# EAGLE library part 233-108/000-005 (library con-wago_233)
Stand: 01.01.2014. Die jeweils aktuellen Daten zu diesem Artikel finden Sie in unserem Produktkatalog, den Sie unter www.wago.com einsehen können. As of: 01/01/2014. Please find the newest data for this article in our product catalogue, which can be viewed under www.wago.com.
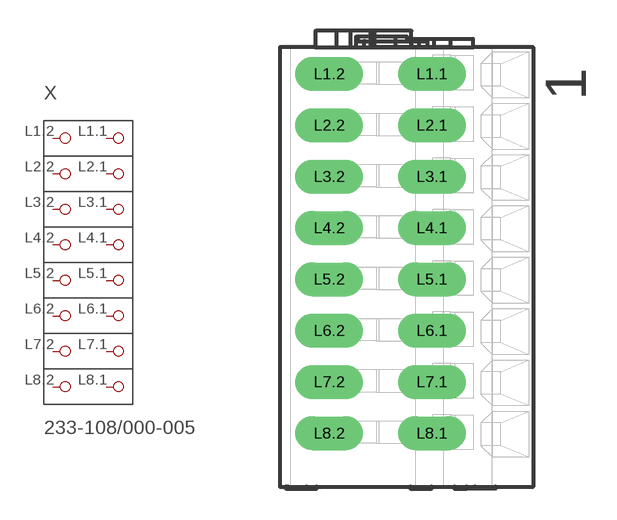
[diagram p60: symbol with the pads of P-233-108; footprint P-233-108]

Designator prefix X

## 233-108/000-005  [P-233-108]
L1.1  P1.1
L1.2  P1.2
L2.1  P2.1
L2.2  P2.2
L3.1  P3.1
L3.2  P3.2
L4.1  P4.1
L4.2  P4.2
L5.1  P5.1
L5.2  P5.2
L6.1  P6.1
L6.2  P6.2
L7.1  P7.1
L7.2  P7.2
L8.1  P8.1
L8.2  P8.2

## Footprint P-233-108 (pad centres in mm)
drill 1.1 long: L1.1 1.238,9.05; L1.2 -3.762,9.05; L2.1 1.238,6.55; L2.2 -3.762,6.55; L3.1 1.238,4.05; L3.2 -3.762,4.05; L4.1 1.238,1.55; L4.2 -3.762,1.55; L5.1 1.238,-0.95; L5.2 -3.762,-0.95; L6.1 1.238,-3.45; L6.2 -3.762,-3.45; L7.1 1.238,-5.95; L7.2 -3.762,-5.95; L8.1 1.238,-8.45; L8.2 -3.762,-8.45